# Altium footprint library 常用封装.PcbLib: 264 footprints (part 4 of 17)
Each footprint in its own frame and in the unit in brackets; x right, y up, seen from the top. Pads: shape width x height; smd on the part's side, far side on the other; paste and mask are expansions set on the pad; w line width, h text height; cw(c..) or ccw(c..) is an arc to the next point about the centre after c.
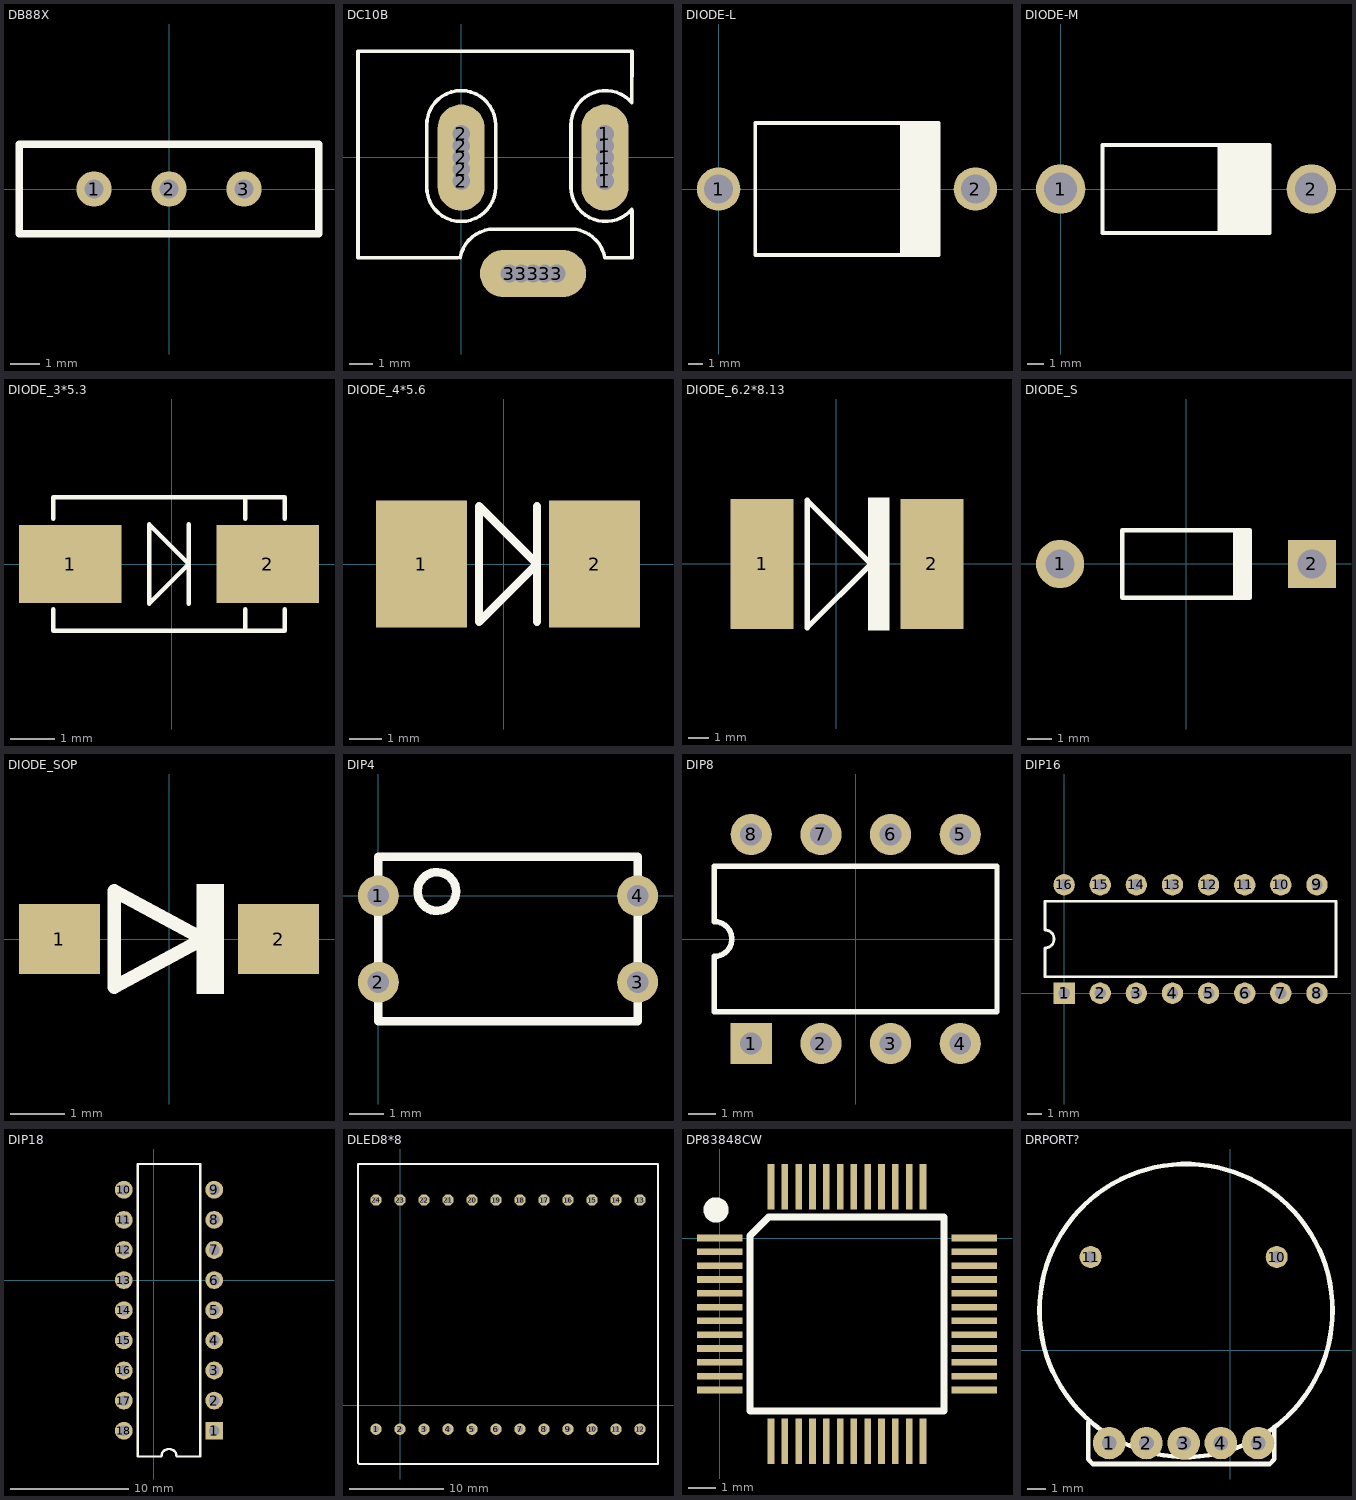
[diagram p3: the footprints below, top view; thin cyan lines are the x and y axes]

## DB88X [mm]
height 18
pads (3):
  round 1.2 hole 0.635: 1(-2.54,0) 2(0,0) 3(2.54,0)
Top Overlay:
  lines w0.254: 0.254,1.524 5.08,1.524 5.08,-1.524 -5.08,-1.524 -5.08,1.524 0.635,1.524

## DC10B [mil]
pads (15):
  round 45 hole 30: 1(244.09,-40.06) 1(244.09,-20.06) 1(244.09,19.94) 1(244.09,39.94) 2(0,-40.06) 2(0,-20.06) 2(0,19.94) 2(0,39.94) 3(82.05,-196.91) 3(102.05,-196.91) 3(142.05,-196.91) 3(162.05,-196.91)
  oval 80x180 hole 30: 1(244.09,-0.06) 2(0,-0.06)
  oval 180x80 hole 30: 3(122.05,-196.91)
Top Overlay:
  lines w6: -6,-170.06 -175,-170.06 -175,179.94 290,179.94 289.83,92.55 ccw(c245,54.94) 186.48,54.94 186.48,-50.06 ccw(c245,-50.06) 289.83,-87.68 ; -1.63,-169.9 cw(c56,-180.06) 56,-121.54 186,-121.54 cw(c186,-180.06) 243.63,-169.9 ; 245,-170.06 290,-170.06 290,-90.06 ; 58.52,54.94 ccw(c0,54.94) -58.52,54.94 -58.52,-50.06 ccw(c0,-50.06) 58.52,-50.06 58.52,54.94 ; 58.52,54.94 58.52,54.94

## DIODE-L [mm] "6A10"
height 10
pads (2):
  round 3 hole 2: 1(0,0) 2(17.78,0)
Top Overlay:
  rectangle: 12.7,-4.572 15.24,4.572
  lines w0.254: 12.7,-4.572 12.7,4.572 ; 2.54,-4.572 2.54,4.572 15.24,4.572 15.24,-4.572 2.54,-4.572

## DIODE-M [mm] "1N5822"
height 6
pads (2):
  round 3 hole 2: 1(0,0) 2(15.24,0)
Top Overlay:
  rectangle: 9.525,-2.667 12.7,2.667
  lines w0.254: 2.54,-2.667 4.699,-2.667 12.7,-2.667 12.7,2.032 12.7,2.667 11.811,2.667 2.54,2.667 2.54,-2.667

## DIODE_3*5.3 [mm] "ME:SS14/SS24;L:5.3mm;W:3mm;"
height 2.5
pads (2):
  rect 2.3x1.75 smd: 1(-2.286,0) 2(2.159,0)
Top Overlay:
  lines w0.1: -2.667,-1.016 -2.667,-1.5 2.54,-1.5 2.54,-1.016 ; -2.667,1.016 -2.667,1.5 2.54,1.5 2.54,1.016 ; 0.381,-0.889 0.381,0.889 ; 1.651,-1.5 1.651,-1.016 ; 1.651,1.016 1.651,1.5 ; -0.508,-0.889 -0.508,0.889 0.381,0 -0.508,-0.889

## DIODE_4*5.6 [mm] "ME:RS2J.L:5.6mm;W:4mm"
height 2.5
pads (2):
  rect 2.8x3.9 smd: 1(-2.54,0) 2(2.794,0)
Top Overlay:
  lines w0.254: 1.016,-1.778 1.016,1.778 ; -0.762,-1.778 -0.762,-1.524 -0.762,1.778 1.016,0 -0.762,-1.778

## DIODE_6.2*8.13 [mm] "ME:RS2J.L:8.13mm;W:6.2mm"
height 2.5
pads (2):
  rect 3x6.22 smd: 1(-3.556,0) 2(4.572,0)
Top Overlay:
  rectangle: 1.524,-3.175 2.54,3.175
  lines w0.254: -1.397,-3.048 1.651,0 -1.397,3.048 -1.397,1.016 -1.397,-3.048

## DIODE_S [mm] "1N4007"
height 2.8
pads (2):
  round 2 hole 1.2: 1(-5.23,0)
  rect 2x2 hole 1.2: 2(5.23,0)
Top Overlay:
  rectangle: 1.95,-1.4 2.75,1.4
  lines w0.2: 2.65,-1.4 -2.65,-1.4 -2.65,1.4 2.65,1.4

## DIODE_SOP [mm] "4148"
height 2
pads (2):
  rect 1.5x1.3 smd: 1(-2.032,0) 2(2.032,0)
Top Overlay:
  rectangle: 0.508,-1.016 1.016,1.016
  lines w0.254: -1.016,-0.889 -1.016,0.889 0.635,0 -1.016,-0.889

## DIP4 [mm] "DIP-4,Row Spacing 7.62 mm; Pitch 2.54 mm"
height 5
pads (4):
  round 1.2 hole 0.635: 1(0,0) 2(0,-2.54) 3(7.62,-2.54) 4(7.62,0)
Top Overlay:
  circle w0.254: c1.718,0.127 r0.568
  lines w0.254: 0,-3.683 7.62,-3.683 7.62,1.143 0,1.143 0,-3.683

## DIP8 [mm] "DIP8 Row Spacing 7.62 mm; Pitch 2.54 mm"
height 5.33
pads (8):
  rect 1.5x1.5 hole 0.8: 1(-3.81,-3.81)
  round 1.5 hole 0.8: 2(-1.27,-3.81) 3(1.27,-3.81) 4(3.81,-3.81) 5(3.81,3.81) 6(1.27,3.81) 7(-1.27,3.81) 8(-3.81,3.81)
Top Overlay:
  lines w0.2: -5.15,-2.65 -5.15,-0.635 ccw(c-5.15,0) -5.15,0.635 -5.15,2.65 5.15,2.65 5.15,-2.65 -5.15,-2.65

## DIP16 [mm] "DIP16,Row Spacing 7.62 mm; Pitch 2.54 mm"
pads (16):
  rect 1.5x1.5 hole 0.8: 1(0,0)
  round 1.5 hole 0.8: 2(2.54,0) 3(5.08,0) 4(7.62,0) 5(10.16,0) 6(12.7,0) 7(15.24,0) 8(17.78,0) 9(17.78,7.62) 10(15.24,7.62) 11(12.7,7.62) 12(10.16,7.62) 13(7.62,7.62) 14(5.08,7.62) 15(2.54,7.62) 16(0,7.62)
Top Overlay:
  lines w0.2: 8.82,1.16 19.12,1.16 19.12,6.46 8.82,6.46 ; 8.96,1.16 -1.34,1.16 -1.34,3.175 ccw(c-1.34,3.81) -1.34,4.445 -1.34,6.46 8.96,6.46

## DIP18 [mm] "DIP-18,Row Spacing 7.62 mm; Pitch 2.54 mm"
height 7
pads (18):
  rect 1.5x1.5 hole 0.9: 1(5.08,-12.7)
  round 1.5 hole 0.9: 2(5.08,-10.16) 3(5.08,-7.62) 4(5.08,-5.08) 5(5.08,-2.54) 6(5.08,0) 7(5.08,2.54) 8(5.08,5.08) 9(5.08,7.62) 10(-2.54,7.62) 11(-2.54,5.08) 12(-2.54,2.54) 13(-2.54,0) 14(-2.54,-2.54) 15(-2.54,-5.08) 16(-2.54,-7.62) 17(-2.54,-10.16) 18(-2.54,-12.7)
Top Overlay:
  lines w0.2: -1.38,-14.87 -1.38,9.79 3.92,9.79 3.92,-14.87 1.905,-14.87 ccw(c1.27,-14.87) 0.635,-14.87 -1.38,-14.87

## DLED8*8 [mm]
height 6.7
pads (24):
  round 1.2 hole 0.635: 1(-2.54,-2.54) 2(0,-2.54) 3(2.54,-2.54) 4(5.08,-2.54) 5(7.62,-2.54) 6(10.16,-2.54) 7(12.7,-2.54) 8(15.24,-2.54) 9(17.78,-2.54) 10(20.32,-2.54) 11(22.86,-2.54) 12(25.4,-2.54) 13(25.4,21.717) 14(22.86,21.717) 15(20.32,21.717) 16(17.78,21.717) 17(15.24,21.717) 18(12.7,21.717) 19(10.16,21.717) 20(7.62,21.717) 21(5.08,21.717) 22(2.54,21.717) 23(0,21.717) 24(-2.54,21.717)
Top Overlay:
  lines w0.254: -4.445,-6.096 -4.318,-6.223 -3.302,-6.223 14.859,-6.223 27.305,-6.223 27.305,25.527 -4.445,25.527 -4.445,-6.096

## DP83848CW [mil]
pads (48):
  rect 65x9.5 smd: 1(0.42,0.29) 2(0.42,-19.39) 3(0.42,-39.08) 4(0.42,-58.76) 5(0.42,-78.45) 6(0.42,-98.13) 7(0.42,-117.82) 8(0.42,-137.5) 9(0.42,-157.19) 10(0.42,-176.87) 11(0.42,-196.56) 12(0.42,-216.24) 25(362.63,-216.24) 26(362.63,-196.56) 27(362.63,-176.87) 28(362.63,-157.19) 29(362.63,-137.5) 30(362.63,-117.82) 31(362.63,-98.13) 32(362.63,-78.45) 33(362.63,-58.76) 34(362.63,-39.08) 35(362.63,-19.39) 36(362.63,0.29)
  rect 9.5x65 smd: 13(73.26,-289.08) 14(92.94,-289.08) 15(112.63,-289.08) 16(132.31,-289.08) 17(152,-289.08) 18(171.68,-289.08) 19(191.37,-289.08) 20(211.05,-289.08) 21(230.74,-289.08) 22(250.42,-289.08) 23(270.11,-289.08) 24(289.79,-289.08) 37(289.79,73.13) 38(270.11,73.13) 39(250.42,73.13) 40(230.74,73.13) 41(211.05,73.13) 42(191.37,73.13) 43(171.68,73.13) 44(152,73.13) 45(132.31,73.13) 46(112.63,73.13) 47(92.94,73.13) 48(73.26,73.13)
Top Overlay:
  circle w25: c-4.93,40.29 r5.35
  lines w10: 43.73,-245.77 319.32,-245.77 319.32,29.82 69.95,29.82 43.73,3.6 43.73,-245.77

## DRPORT? [mil] "DRPORT"
height 30
pads (7):
  round 70 hole 31.5: 1(-260,-200) 2(-180,-200) 3(-100,-200) 4(-20,-200) 5(60,-200)
  round 47.24 hole 25: 10(100,200) 11(-300,200)
Top Overlay:
  circle w10: c-94.96,85 r314.96
  lines w10: -305,-155 -305,-235 -295,-245 85,-245 95,-235 95,-165